# Altium footprint library Abracon.PcbLib: 1 footprints
Each footprint in its own frame and in the unit in brackets; x right, y up, seen from the top. Pads: shape width x height; smd on the part's side, far side on the other; paste and mask are expansions set on the pad; w line width, h text height; cw(c..) or ccw(c..) is an arc to the next point about the centre after c.
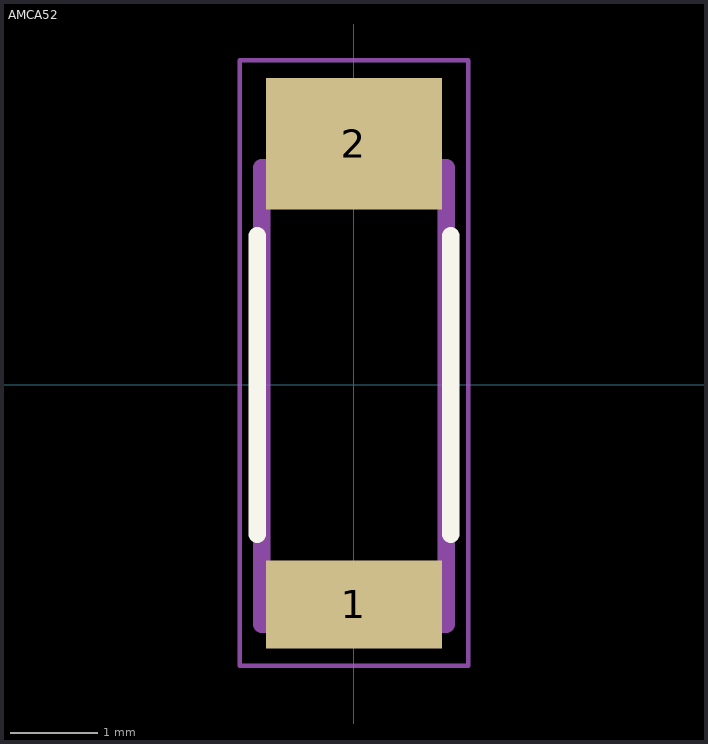
[diagram p0: the footprint, top view; thin cyan lines are the x and y axes]

## AMCA52 [mm]
pads (2):
  rect 2x1 smd: 1(0,-2.5)
  rect 2x1.5 smd: 2(0,2.75)
Top Overlay:
  lines w0.2: -1.1,-1.7 -1.1,1.7 ; 1.1,-1.7 1.1,1.7
Mechanical 13:
  lines w0.2: -1.05,-2.725 -1.05,2.475 1.05,2.475 1.05,-2.725 -1.05,-2.725
Mechanical 15:
  lines w0.05: -1.3,-3.2 1.3,-3.2 1.3,3.7 -1.3,3.7 -1.3,-3.2
  text ".Designator" at 0.2,-2.6 h1
3D body: height 1, standoff 0.05, extent -1.05,-2.725 1.05,2.475